# EAGLE library part MCP73833-FCI/UN (library MCP73833)
LI-ION/LI-POLY CONTROLLERS
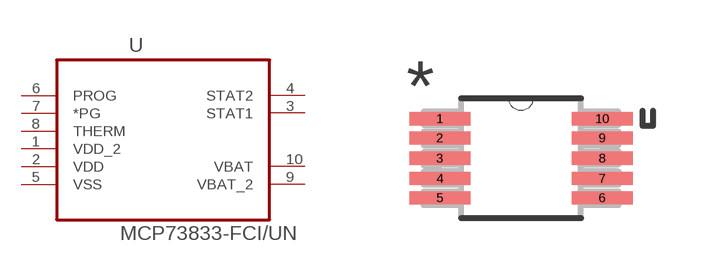
[diagram p0: symbol with the pads of SOP50P490X110-10N; footprint SOP50P490X110-10N]

Designator prefix U

## MCP73833-FCI/UN (MPN: MCP73833-FCI/UN; OC_FARNELL: 1605576; OC_NEWARK: 88K5666; PACKAGE: MSOP10; SUPPLIER: Microchip)  [SOP50P490X110-10N]
1  VDD_2  pwr
2  VDD  pwr
3  STAT1  out
4  STAT2  out
5  VSS  pas
6  PROG  in
7  *PG  in
8  THERM  in
9  VBAT_2  out
10  VBAT  out

## Footprint SOP50P490X110-10N (pad centres in mm)
smd 1.524 x 0.33: 1 -2.032,0.991; 2 -2.032,0.508; 3 -2.032,0; 4 -2.032,-0.508; 5 -2.032,-0.991; 6 2.032,-0.991; 7 2.032,-0.508; 8 2.032,0; 9 2.032,0.508; 10 2.032,0.991